# Altium footprint library PCB_library.PcbLib: 19 footprints (part 2 of 2)
Each footprint in its own frame and in the unit in brackets; x right, y up, seen from the top. Pads: shape width x height; smd on the part's side, far side on the other; paste and mask are expansions set on the pad; w line width, h text height; cw(c..) or ccw(c..) is an arc to the next point about the centre after c.
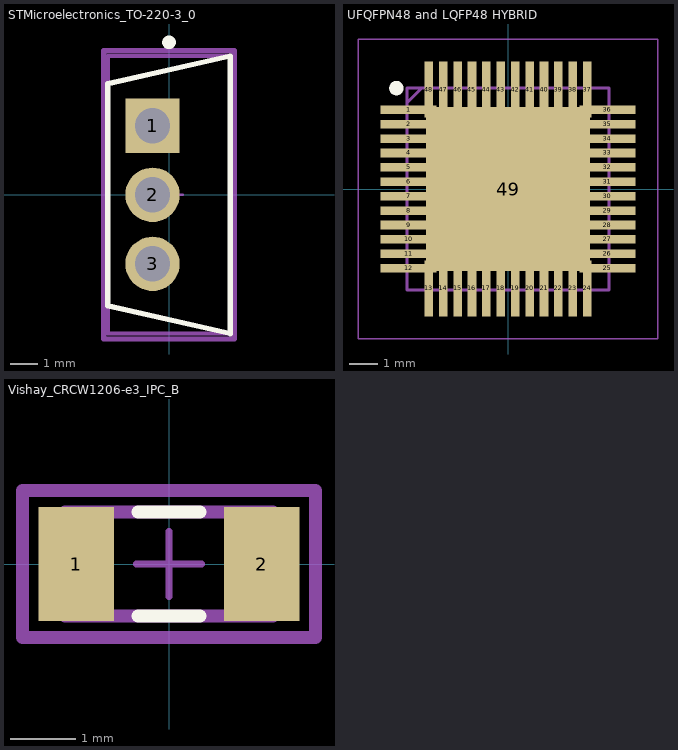
[diagram p1: the footprints below, top view; thin cyan lines are the x and y axes]

## STMicroelectronics_TO-220-3_0 [mm]
pads (3):
  rect 2x2 hole 1.3 paste-1000 mask+0: 1(-0.605,2.54)
  round 2 hole 1.3 paste-1000 mask+0: 2(-0.605,0) 3(-0.605,-2.54)
Top Overlay:
  circle w0.25: c0,5.6 r0.125
  lines w0.2: 2.25,-5.1 -2.25,-4.08 -2.25,4.08 2.25,5.1 ; 2.25,-5.05 2.25,5.05
Mechanical 10:
  lines w0.2: -2.4,-5.3 -2.4,5.3 2.4,5.3 2.4,-5.3 -2.4,-5.3
  text ".Designator" at 0,0 h1
Mechanical 12:
  lines w0.15: -2.25,-5.1 -2.25,5.1 2.25,5.1 2.25,-5.1 -2.25,-5.1
Mechanical 15:
  lines w0.1: -0.5,0 0.5,0 ; 0,-0.5 0,0.5
  lines w0.2: -2.4,-5.3 -2.4,5.3 2.4,5.3 2.4,-5.3 -2.4,-5.3
3D body "IC_STMicroelectronics_L7805CV_eec.STEP": height 0.25, standoff 0, extent -2.4,-5.3 2.4,5.3

## UFQFPN48 and LQFP48 HYBRID [mm]
pads (49):
  rect 1.95x0.3 smd: 1(-3.45,2.75) 2(-3.45,2.25) 3(-3.45,1.75) 4(-3.45,1.25) 5(-3.45,0.75) 6(-3.45,0.25) 7(-3.45,-0.25) 8(-3.45,-0.75) 9(-3.45,-1.25) 10(-3.45,-1.75) 11(-3.45,-2.25) 12(-3.45,-2.75) 25(3.45,-2.75) 26(3.45,-2.25) 27(3.45,-1.75) 28(3.45,-1.25) 29(3.45,-0.75) 30(3.45,-0.25) 31(3.45,0.25) 32(3.45,0.75) 33(3.45,1.25) 34(3.45,1.75) 35(3.45,2.25) 36(3.45,2.75)
  rect 0.3x1.95 smd: 13(-2.75,-3.45) 14(-2.25,-3.45) 15(-1.75,-3.45) 16(-1.25,-3.45) 17(-0.75,-3.45) 18(-0.25,-3.45) 19(0.25,-3.45) 20(0.75,-3.45) 21(1.25,-3.45) 22(1.75,-3.45) 23(2.25,-3.45) 24(2.75,-3.45) 37(2.75,3.45) 38(2.25,3.45) 39(1.75,3.45) 40(1.25,3.45) 41(0.75,3.45) 42(0.25,3.45) 43(-0.25,3.45) 44(-0.75,3.45) 45(-1.25,3.45) 46(-1.75,3.45) 47(-2.25,3.45) 48(-2.75,3.45)
  rect 5.7x5.7 smd: 49(0,0)
Top Overlay:
  circle w0.25: c-3.875,3.5 r0.125
Mechanical 13:
  lines w0.1: -3.5,3 -3,3.5 ; -3.5,-3.5 3.5,-3.5 3.5,3.5 -3.5,3.5 -3.5,-3.5
Mechanical 15:
  lines w0.05: -5.207,-5.207 -5.207,5.207 5.207,5.207 5.207,-5.207 -5.207,-5.207
3D body "STM32G071CBU6.stp": height 0.6, standoff 0, extent -3.55,-3.55 3.55,3.55

## Vishay_CRCW1206-e3_IPC_B [mm]
pads (2):
  rect 1.156x1.758 smd paste+0 mask+0: 1(-1.426,0) 2(1.426,0)
Top Overlay:
  lines w0.2: -0.473,-0.8 0.473,-0.8 ; -0.473,0.8 0.473,0.8
Mechanical 10:
  lines w0.2: -2.254,-1.129 2.254,-1.129 2.254,1.129 -2.254,1.129 -2.254,-1.129
  text ".Designator" at 0,0.188 h1
Mechanical 12:
  lines w0.2: -1.6,-0.8 1.6,-0.8 1.6,0.8 -1.6,0.8 -1.6,-0.8
Mechanical 15:
  lines w0.1: -0.5,0 0.5,0 ; 0,-0.5 0,0.5
  lines w0.2: -2.254,-1.129 2.254,-1.129 2.254,1.129 -2.254,1.129 -2.254,-1.129
3D body "Res_Vishay_CRCW1206510RJNEA_eec.STEP": height 0.25, standoff 0, extent -2.254,-1.129 2.254,1.129